# Altium footprint library aiskylab-14Connectors-01FFC-FPC.PcbLib: 118 footprints (part 6 of 8)
Each footprint in its own frame and in the unit in brackets; x right, y up, seen from the top. Pads: shape width x height; smd on the part's side, far side on the other; paste and mask are expansions set on the pad; w line width, h text height; cw(c..) or ccw(c..) is an arc to the next point about the centre after c.
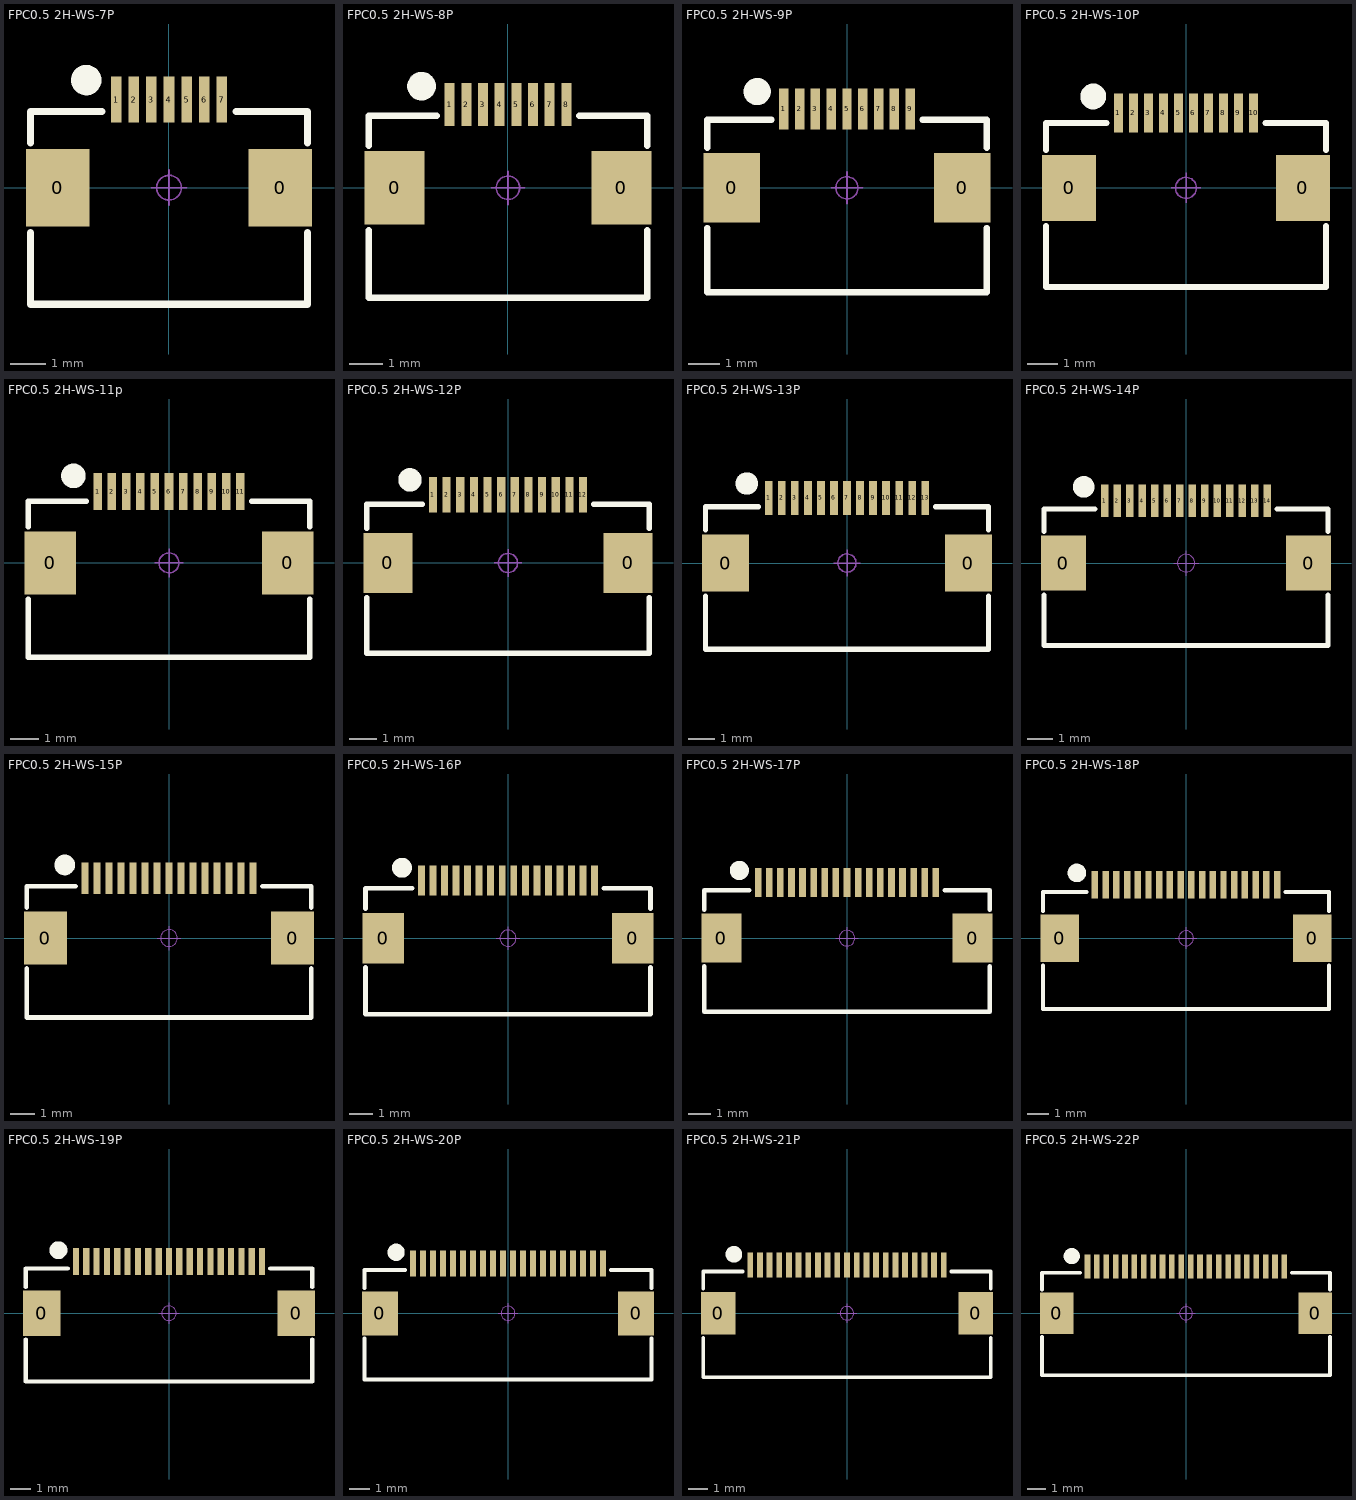
[diagram p5: the footprints below, top view; thin cyan lines are the x and y axes]

## FPC0.5 2H-WS-7P [mm] "长：7.7mm，宽：5.2mm，高：2mm"
pads (9):
  rect 1.8x2.2 smd: 0(-3.15,0) 0(3.15,0)
  rect 0.3x1.3 smd: 1(-1.5,2.497) 2(-1,2.497) 3(-0.5,2.497) 4(0,2.497) 5(0.5,2.497) 6(1,2.497) 7(1.5,2.497)
Top Overlay:
  circle w0.5: c-2.344,3.048 r0.18
  lines w0.2: -3.925,-1.27 -3.925,-3.302 3.925,-3.302 3.925,-1.27 ; -3.925,1.27 -3.925,2.159 -1.893,2.159 ; 1.893,2.159 3.925,2.159 3.925,1.27
Top Component Center:
  circle w0.05: c0,0 r0.35
  lines w0.05: -0.5,0 0.5,0 ; 0,-0.5 0,0.5
3D body: height 2, standoff -0.01, extent -3.85,-3.15 3.85,2.85

## FPC0.5 2H-WS-8P [mm] "长：8.2mm，宽：5.2mm，高：2mm"
pads (10):
  rect 1.8x2.2 smd: 0(-3.4,0) 0(3.4,0)
  rect 0.3x1.3 smd: 1(-1.75,2.497) 2(-1.25,2.497) 3(-0.75,2.497) 4(-0.25,2.497) 5(0.25,2.497) 6(0.75,2.497) 7(1.25,2.497) 8(1.75,2.497)
Top Overlay:
  circle w0.5: c-2.594,3.048 r0.18
  lines w0.2: -4.175,-1.27 -4.175,-3.302 4.175,-3.302 4.175,-1.27 ; -4.175,1.27 -4.175,2.159 -2.143,2.159 ; 2.143,2.159 4.175,2.159 4.175,1.27
Top Component Center:
  circle w0.05: c0,0 r0.35
  lines w0.05: -0.5,0 0.5,0 ; 0,-0.5 0,0.5
3D body: height 2, standoff -0.01, extent -4.1,-3.15 4.1,2.85

## FPC0.5 2H-WS-9P [mm] "长：8.7mm，宽：5.2mm，高：2mm"
pads (11):
  rect 1.8x2.2 smd: 0(-3.65,0) 0(3.65,0)
  rect 0.3x1.3 smd: 1(-2,2.497) 2(-1.5,2.497) 3(-1,2.497) 4(-0.5,2.497) 5(0,2.497) 6(0.5,2.497) 7(1,2.497) 8(1.5,2.497) 9(2,2.497)
Top Overlay:
  circle w0.5: c-2.844,3.048 r0.18
  lines w0.2: -4.425,-1.27 -4.425,-3.302 4.425,-3.302 4.425,-1.27 ; -4.425,1.27 -4.425,2.159 -2.393,2.159 ; 2.393,2.159 4.425,2.159 4.425,1.27
Top Component Center:
  circle w0.05: c0,0 r0.35
  lines w0.05: -0.5,0 0.5,0 ; 0,-0.5 0,0.5
3D body: height 2, standoff -0.01, extent -4.35,-3.15 4.35,2.85

## FPC0.5 2H-WS-10P [mm] "长：9.2mm，宽：5.2mm，高：2mm"
pads (12):
  rect 1.8x2.2 smd: 0(-3.9,0) 0(3.9,0)
  rect 0.3x1.3 smd: 1(-2.25,2.497) 2(-1.75,2.497) 3(-1.25,2.497) 4(-0.75,2.497) 5(-0.25,2.497) 6(0.25,2.497) 7(0.75,2.497) 8(1.25,2.497) 9(1.75,2.497) 10(2.25,2.497)
Top Overlay:
  circle w0.5: c-3.094,3.048 r0.18
  lines w0.2: -4.675,-1.27 -4.675,-3.302 4.675,-3.302 4.675,-1.27 ; -4.675,1.27 -4.675,2.159 -2.643,2.159 ; 2.643,2.159 4.675,2.159 4.675,1.27
Top Component Center:
  circle w0.05: c0,0 r0.35
  lines w0.05: -0.5,0 0.5,0 ; 0,-0.5 0,0.5
3D body: height 2, standoff -0.01, extent -4.6,-3.15 4.6,2.85

## FPC0.5 2H-WS-11p [mm] "长：9.7mm，宽：5.2mm，高：2mm"
pads (13):
  rect 1.8x2.2 smd: 0(-4.15,0) 0(4.15,0)
  rect 0.3x1.3 smd: 1(-2.5,2.497) 2(-2,2.497) 3(-1.5,2.497) 4(-1,2.497) 5(-0.5,2.497) 6(0,2.497) 7(0.5,2.497) 8(1,2.497) 9(1.5,2.497) 10(2,2.497) 11(2.5,2.497)
Top Overlay:
  circle w0.5: c-3.344,3.048 r0.18
  lines w0.2: -4.925,-1.27 -4.925,-3.302 4.925,-3.302 4.925,-1.27 ; -4.925,1.27 -4.925,2.159 -2.893,2.159 ; 2.893,2.159 4.925,2.159 4.925,1.27
Top Component Center:
  circle w0.05: c0,0 r0.35
  lines w0.05: -0.5,0 0.5,0 ; 0,-0.5 0,0.5
3D body: height 2, standoff -0.01, extent -4.85,-3.15 4.85,2.85

## FPC0.5 2H-WS-12P [mm] "长：10.2mm，宽：5.2mm，高：2mm"
pads (14):
  rect 1.8x2.2 smd: 0(-4.4,0) 0(4.4,0)
  rect 0.3x1.3 smd: 1(-2.75,2.497) 2(-2.25,2.497) 3(-1.75,2.497) 4(-1.25,2.497) 5(-0.75,2.497) 6(-0.25,2.497) 7(0.25,2.497) 8(0.75,2.497) 9(1.25,2.497) 10(1.75,2.497) 11(2.25,2.497) 12(2.75,2.497)
Top Overlay:
  circle w0.5: c-3.594,3.048 r0.18
  lines w0.2: -5.175,-1.27 -5.175,-3.302 5.175,-3.302 5.175,-1.27 ; -5.175,1.27 -5.175,2.159 -3.143,2.159 ; 3.143,2.159 5.175,2.159 5.175,1.27
Top Component Center:
  circle w0.05: c0,0 r0.35
  lines w0.05: -0.5,0 0.5,0 ; 0,-0.5 0,0.5
3D body: height 2, standoff -0.01, extent -5.1,-3.15 5.1,2.85

## FPC0.5 2H-WS-13P [mm] "长：10.7mm，宽：5.2mm，高：2mm"
pads (15):
  rect 1.8x2.2 smd: 0(-4.65,0) 0(4.65,0)
  rect 0.3x1.3 smd: 1(-3,2.497) 2(-2.5,2.497) 3(-2,2.497) 4(-1.5,2.497) 5(-1,2.497) 6(-0.5,2.497) 7(0,2.497) 8(0.5,2.497) 9(1,2.497) 10(1.5,2.497) 11(2,2.497) 12(2.5,2.497) 13(3,2.497)
Top Overlay:
  circle w0.5: c-3.844,3.048 r0.18
  lines w0.2: -5.425,-1.27 -5.425,-3.302 5.425,-3.302 5.425,-1.27 ; -5.425,1.27 -5.425,2.159 -3.393,2.159 ; 3.393,2.159 5.425,2.159 5.425,1.27
Top Component Outline:
  circle w0.05: c0,0 r0.35
  lines w0.05: -0.5,0 0.5,0 ; 0,-0.5 0,0.5
3D body: height 2, standoff -0.01, extent -5.35,-3.15 5.35,2.85

## FPC0.5 2H-WS-14P [mm] "长：11.2mm，宽：5.2mm，高：2mm"
pads (16):
  rect 1.8x2.2 smd: 0(-4.9,0) 0(4.9,0)
  rect 0.3x1.3 smd: 1(-3.25,2.497) 2(-2.75,2.497) 3(-2.25,2.497) 4(-1.75,2.497) 5(-1.25,2.497) 6(-0.75,2.497) 7(-0.25,2.497) 8(0.25,2.497) 9(0.75,2.497) 10(1.25,2.497) 11(1.75,2.497) 12(2.25,2.497) 13(2.75,2.497) 14(3.25,2.497)
Top Overlay:
  circle w0.5: c-4.094,3.048 r0.18
  lines w0.2: -5.675,-1.27 -5.675,-3.302 5.675,-3.302 5.675,-1.27 ; -5.675,1.27 -5.675,2.159 -3.643,2.159 ; 3.643,2.159 5.675,2.159 5.675,1.27
Top Component Outline:
  circle w0.05: c0,0 r0.35
  lines w0.05: -0.5,0 0.5,0 ; 0,-0.5 0,0.5
3D body: height 2, standoff -0.01, extent -5.6,-3.15 5.6,2.85

## FPC0.5 2H-WS-15P [mm] "长：11.7mm，宽：5.2mm，高：2mm"
pads (17):
  rect 1.8x2.2 smd: 0(-5.15,0) 0(5.15,0)
  rect 0.3x1.3 smd: 1(-3.5,2.497) 2(-3,2.497) 3(-2.5,2.497) 4(-2,2.497) 5(-1.5,2.497) 6(-1,2.497) 7(-0.5,2.497) 8(0,2.497) 9(0.5,2.497) 10(1,2.497) 11(1.5,2.497) 12(2,2.497) 13(2.5,2.497) 14(3,2.497) 15(3.5,2.497)
Top Overlay:
  circle w0.5: c-4.344,3.048 r0.18
  lines w0.2: -5.925,-1.27 -5.925,-3.302 5.925,-3.302 5.925,-1.27 ; -5.925,1.27 -5.925,2.159 -3.893,2.159 ; 3.893,2.159 5.925,2.159 5.925,1.27
Top Component Outline:
  circle w0.05: c0,0 r0.35
  lines w0.05: -0.5,0 0.5,0 ; 0,-0.5 0,0.5
3D body: height 2, standoff -0.01, extent -5.85,-3.15 5.85,2.85

## FPC0.5 2H-WS-16P [mm] "长：12.2mm，宽：5.2mm，高：2mm"
pads (18):
  rect 1.8x2.2 smd: 0(-5.4,0) 0(5.4,0)
  rect 0.3x1.3 smd: 1(-3.75,2.497) 2(-3.25,2.497) 3(-2.75,2.497) 4(-2.25,2.497) 5(-1.75,2.497) 6(-1.25,2.497) 7(-0.75,2.497) 8(-0.25,2.497) 9(0.25,2.497) 10(0.75,2.497) 11(1.25,2.497) 12(1.75,2.497) 13(2.25,2.497) 14(2.75,2.497) 15(3.25,2.497) 16(3.75,2.497)
Top Overlay:
  circle w0.5: c-4.594,3.048 r0.18
  lines w0.2: -6.175,-1.27 -6.175,-3.302 6.175,-3.302 6.175,-1.27 ; -6.175,1.27 -6.175,2.159 -4.143,2.159 ; 4.143,2.159 6.175,2.159 6.175,1.27
Top Component Center:
  circle w0.05: c0,0 r0.35
  lines w0.05: -0.5,0 0.5,0 ; 0,-0.5 0,0.5
3D body "FPC0.5 2H-S-W-16P.STEP": height 2, standoff -0.01, extent -6.1,-3.15 6.1,2.85

## FPC0.5 2H-WS-17P [mm] "长：12.7mm，宽：5.2mm，高：2mm"
pads (19):
  rect 1.8x2.2 smd: 0(-5.65,0) 0(5.65,0)
  rect 0.3x1.3 smd: 1(-4,2.497) 2(-3.5,2.497) 3(-3,2.497) 4(-2.5,2.497) 5(-2,2.497) 6(-1.5,2.497) 7(-1,2.497) 8(-0.5,2.497) 9(0,2.497) 10(0.5,2.497) 11(1,2.497) 12(1.5,2.497) 13(2,2.497) 14(2.5,2.497) 15(3,2.497) 16(3.5,2.497) 17(4,2.497)
Top Overlay:
  circle w0.5: c-4.844,3.048 r0.18
  lines w0.2: -6.425,-1.27 -6.425,-3.302 6.425,-3.302 6.425,-1.27 ; -6.425,1.27 -6.425,2.159 -4.393,2.159 ; 4.393,2.159 6.425,2.159 6.425,1.27
Top Component Center:
  circle w0.05: c0,0 r0.35
  lines w0.05: -0.5,0 0.5,0 ; 0,-0.5 0,0.5
3D body: height 2, standoff -0.01, extent -6.35,-3.15 6.35,2.85

## FPC0.5 2H-WS-18P [mm] "长：13.2mm，宽：5.2mm，高：2mm"
pads (20):
  rect 1.8x2.2 smd: 0(-5.9,0) 0(5.9,0)
  rect 0.3x1.3 smd: 1(-4.25,2.497) 2(-3.75,2.497) 3(-3.25,2.497) 4(-2.75,2.497) 5(-2.25,2.497) 6(-1.75,2.497) 7(-1.25,2.497) 8(-0.75,2.497) 9(-0.25,2.497) 10(0.25,2.497) 11(0.75,2.497) 12(1.25,2.497) 13(1.75,2.497) 14(2.25,2.497) 15(2.75,2.497) 16(3.25,2.497) 17(3.75,2.497) 18(4.25,2.497)
Top Overlay:
  circle w0.5: c-5.094,3.048 r0.18
  lines w0.2: -6.675,-1.27 -6.675,-3.302 6.675,-3.302 6.675,-1.27 ; -6.675,1.27 -6.675,2.159 -4.643,2.159 ; 4.643,2.159 6.675,2.159 6.675,1.27
Top Component Center:
  circle w0.05: c0,0 r0.35
  lines w0.05: -0.5,0 0.5,0 ; 0,-0.5 0,0.5
3D body: height 2, standoff -0.01, extent -6.6,-3.15 6.6,2.85

## FPC0.5 2H-WS-19P [mm] "长：13.7mm，宽：5.2mm，高：2mm"
pads (21):
  rect 1.8x2.2 smd: 0(-6.15,0) 0(6.15,0)
  rect 0.3x1.3 smd: 1(-4.5,2.497) 2(-4,2.497) 3(-3.5,2.497) 4(-3,2.497) 5(-2.5,2.497) 6(-2,2.497) 7(-1.5,2.497) 8(-1,2.497) 9(-0.5,2.497) 10(0,2.497) 11(0.5,2.497) 12(1,2.497) 13(1.5,2.497) 14(2,2.497) 15(2.5,2.497) 16(3,2.497) 17(3.5,2.497) 18(4,2.497) 19(4.5,2.497)
Top Overlay:
  circle w0.5: c-5.344,3.048 r0.18
  lines w0.2: -6.925,-1.27 -6.925,-3.302 6.925,-3.302 6.925,-1.27 ; -6.925,1.27 -6.925,2.159 -4.893,2.159 ; 4.893,2.159 6.925,2.159 6.925,1.27
Top Component Center:
  circle w0.05: c0,0 r0.35
  lines w0.05: -0.5,0 0.5,0 ; 0,-0.5 0,0.5
3D body: height 2, standoff -0.01, extent -6.85,-3.15 6.85,2.85

## FPC0.5 2H-WS-20P [mm] "长：14.2mm，宽：5.2mm，高：2mm"
pads (22):
  rect 1.8x2.2 smd: 0(-6.4,0) 0(6.4,0)
  rect 0.3x1.3 smd: 1(-4.75,2.497) 2(-4.25,2.497) 3(-3.75,2.497) 4(-3.25,2.497) 5(-2.75,2.497) 6(-2.25,2.497) 7(-1.75,2.497) 8(-1.25,2.497) 9(-0.75,2.497) 10(-0.25,2.497) 11(0.25,2.497) 12(0.75,2.497) 13(1.25,2.497) 14(1.75,2.497) 15(2.25,2.497) 16(2.75,2.497) 17(3.25,2.497) 18(3.75,2.497) 19(4.25,2.497) 20(4.75,2.497)
Top Overlay:
  circle w0.5: c-5.594,3.048 r0.18
  lines w0.2: -7.175,-1.27 -7.175,-3.302 7.175,-3.302 7.175,-1.27 ; -7.175,1.27 -7.175,2.159 -5.143,2.159 ; 5.143,2.159 7.175,2.159 7.175,1.27
Top Component Center:
  circle w0.05: c0,0 r0.35
  lines w0.05: -0.5,0 0.5,0 ; 0,-0.5 0,0.5
3D body: height 2, standoff -0.01, extent -7.1,-3.15 7.1,2.85

## FPC0.5 2H-WS-21P [mm] "长：14.7mm，宽：5.2mm，高：2mm"
pads (23):
  rect 1.8x2.2 smd: 0(-6.65,0) 0(6.65,0)
  rect 0.3x1.3 smd: 1(-5,2.497) 2(-4.5,2.497) 3(-4,2.497) 4(-3.5,2.497) 5(-3,2.497) 6(-2.5,2.497) 7(-2,2.497) 8(-1.5,2.497) 9(-1,2.497) 10(-0.5,2.497) 11(0,2.497) 12(0.5,2.497) 13(1,2.497) 14(1.5,2.497) 15(2,2.497) 16(2.5,2.497) 17(3,2.497) 18(3.5,2.497) 19(4,2.497) 20(4.5,2.497) 21(5,2.497)
Top Overlay:
  circle w0.5: c-5.844,3.048 r0.18
  lines w0.2: -7.425,-1.27 -7.425,-3.302 7.425,-3.302 7.425,-1.27 ; -7.425,1.27 -7.425,2.159 -5.393,2.159 ; 5.393,2.159 7.425,2.159 7.425,1.27
Top Component Center:
  circle w0.05: c0,0 r0.35
  lines w0.05: -0.5,0 0.5,0 ; 0,-0.5 0,0.5
3D body: height 2, standoff -0.01, extent -7.35,-3.15 7.35,2.85

## FPC0.5 2H-WS-22P [mm] "长：15.2mm，宽：5.2mm，高：2mm"
pads (24):
  rect 1.8x2.2 smd: 0(-6.9,0) 0(6.9,0)
  rect 0.3x1.3 smd: 1(-5.25,2.497) 2(-4.75,2.497) 3(-4.25,2.497) 4(-3.75,2.497) 5(-3.25,2.497) 6(-2.75,2.497) 7(-2.25,2.497) 8(-1.75,2.497) 9(-1.25,2.497) 10(-0.75,2.497) 11(-0.25,2.497) 12(0.25,2.497) 13(0.75,2.497) 14(1.25,2.497) 15(1.75,2.497) 16(2.25,2.497) 17(2.75,2.497) 18(3.25,2.497) 19(3.75,2.497) 20(4.25,2.497) 21(4.75,2.497) 22(5.25,2.497)
Top Overlay:
  circle w0.5: c-6.094,3.048 r0.18
  lines w0.2: -7.675,-1.27 -7.675,-3.302 7.675,-3.302 7.675,-1.27 ; -7.675,1.27 -7.675,2.159 -5.643,2.159 ; 5.643,2.159 7.675,2.159 7.675,1.27
Top Component Center:
  circle w0.05: c0,0 r0.35
  lines w0.05: -0.5,0 0.5,0 ; 0,-0.5 0,0.5
3D body: height 2, standoff -0.01, extent -7.6,-3.15 7.6,2.85